# Altium footprint library LM1117MP-3.3.PcbLib: 2 footprints
Each footprint in its own frame and in the unit in brackets; x right, y up, seen from the top. Pads: shape width x height; smd on the part's side, far side on the other; paste and mask are expansions set on the pad; w line width, h text height; cw(c..) or ccw(c..) is an arc to the next point about the centre after c.
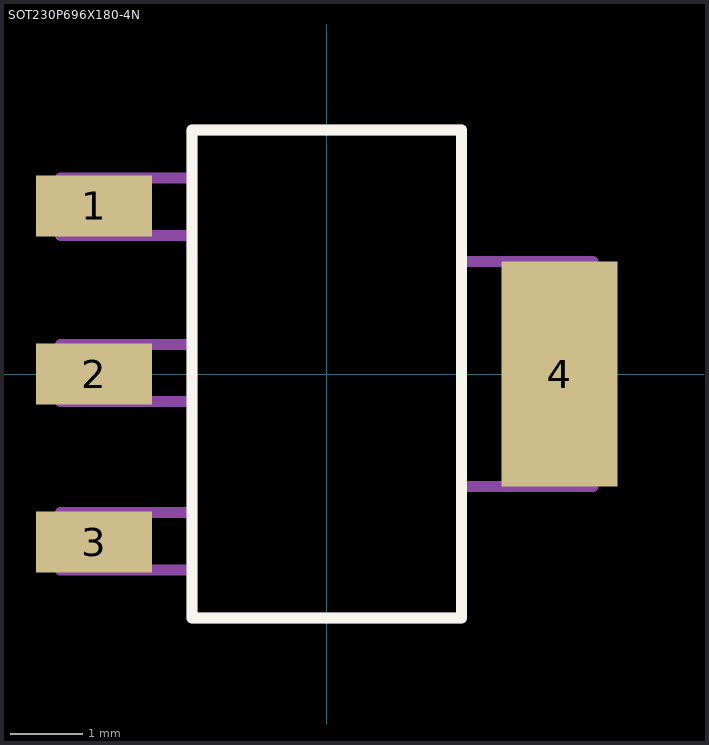
[diagram p0: the footprints below, top view; thin cyan lines are the x and y axes]

## PCBComponent_1 [mil]

## SOT230P696X180-4N [mil]
pads (4):
  rect 63x33 smd: 1(-126,91) 2(-126,0) 3(-126,-91)
  rect 63x122 smd: 4(126,0)
Top Overlay:
  lines w6: -73,-132 -73,132 73,132 73,-132 -73,-132
Mechanical 1:
  lines w6: -144,-106 -73,-106 -73,-75 -144,-75 -144,-106 ; -144,-15 -73,-15 -73,16 -144,16 -144,-15 ; -144,75 -73,75 -73,106 -144,106 -144,75 ; -73,-132 -73,132 73,132 73,-132 -73,-132 ; 73,-61 144,-61 144,61 73,61 73,-61